# Altium integrated library Dorji.IntLib: 1 symbol
Pins are listed as number, name and electrical type; pins without a type are passive.

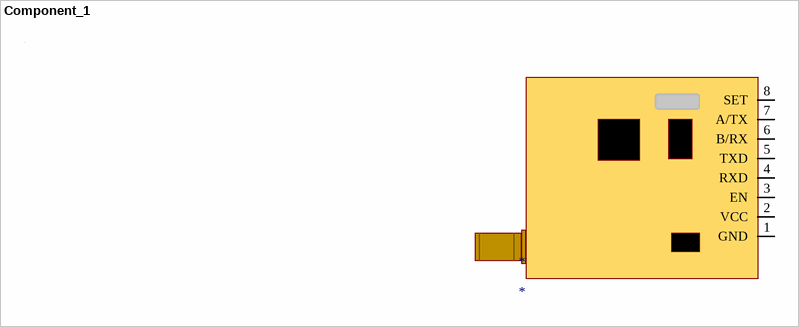
[diagram p0: symbol Component_1]

## Component_1
designator *
footprint PCBComponent_1
pins: 1 GND, 2 VCC, 3 EN, 4 RXD, 5 TXD, 6 B/RX, 7 A/TX, 8 SET